# Altium footprint library Fuse.PcbLib: 123 footprints (part 3 of 8)
Each footprint in its own frame and in the unit in brackets; x right, y up, seen from the top. Pads: shape width x height; smd on the part's side, far side on the other; paste and mask are expansions set on the pad; w line width, h text height; cw(c..) or ccw(c..) is an arc to the next point about the centre after c.
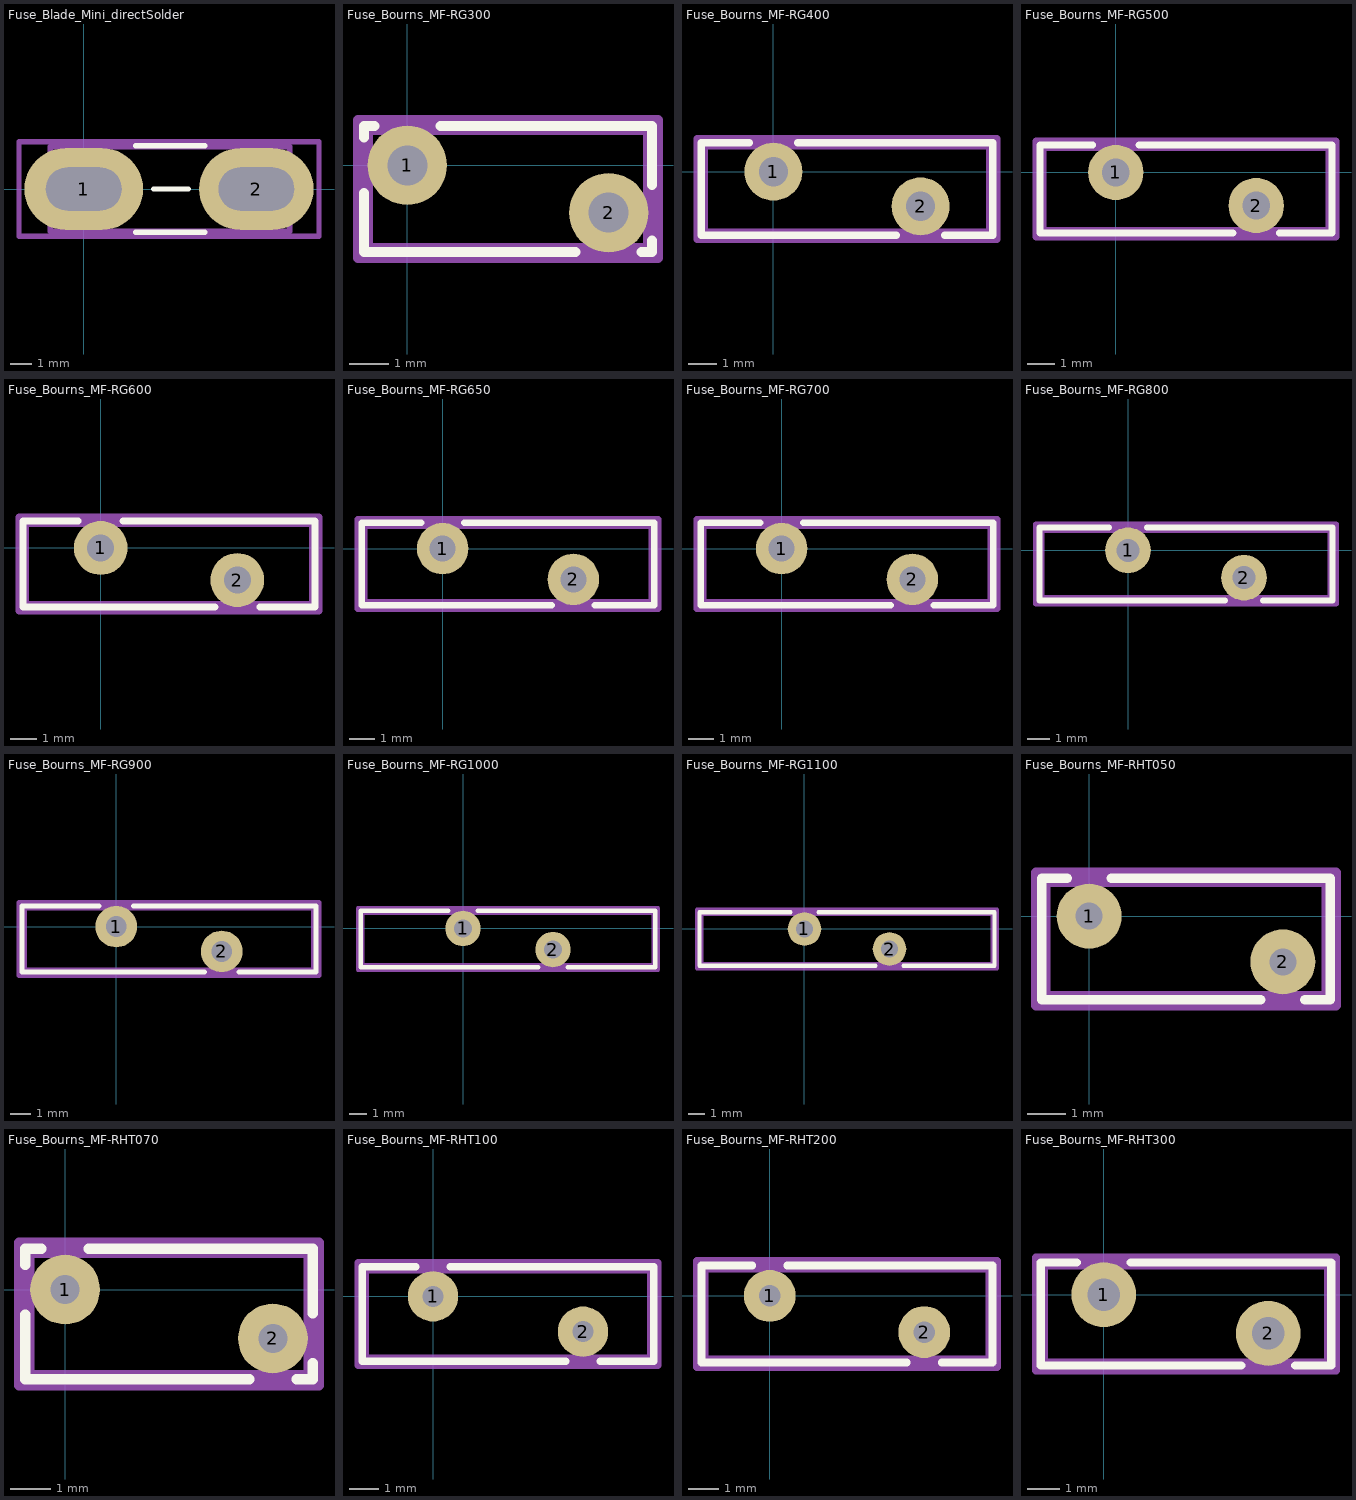
[diagram p2: the footprints below, top view; thin cyan lines are the x and y axes]

## Fuse_Blade_Mini_directSolder [mm]
pads (2):
  rrect100% 5.5x3.8 hole 2 slot 3.5 at 0 deg: 1(0,0)
  rrect100% 5.3x3.8 hole 2 slot 3.5 at 0 deg: 2(8,0)
F.SilkS:
  lines w0.254: 2.4,-2 5.6,-2 ; 2.4,2 5.6,2 ; 3.25,0 4.85,0
Top Assembly:
  lines w0.254: -1.55,-1.95 9.55,-1.95 9.55,1.95 -1.55,1.95 -1.55,-1.95
  text "'.Designator'" at 0.203,0.16 h1
Top Courtyard:
  lines w0.254: -3,-2.2 10.9,-2.2 10.9,2.2 -3,2.2 -3,-2.2
Top Designator:
  text ".Designator" at -3.668,-0.508 h1.52

## Fuse_Bourns_MF-RG300 [mm]
pads (2):
  round 2.01 hole 1.01: 1(0,0) 2(5.1,-1.2)
F.SilkS:
  lines w0.254: -1.1,-0.702 -1.1,-2.2 4.262,-2.2 ; -1.1,0.702 -1.1,1 -0.838,1 ; 0.838,1 6.2,1 6.2,-0.498 ; 5.938,-2.2 6.2,-2.2 6.2,-1.902
Top Assembly:
  lines w0.254: -1,-2.1 6.1,-2.1 6.1,0.9 -1,0.9 -1,-2.1
  text "'.Designator'" at -1.497,-1.44 h1
Top Courtyard:
  lines w0.254: -1.25,-2.35 6.35,-2.35 6.35,1.15 -1.25,1.15 -1.25,-2.35
Top Designator:
  text ".Designator" at -5.202,-1.108 h1.52

## Fuse_Bourns_MF-RG400 [mm]
pads (2):
  round 2.01 hole 1.01: 1(0,0) 2(5.1,-1.2)
F.SilkS:
  lines w0.254: -0.838,1 -2.5,1 -2.5,-2.2 4.262,-2.2 ; 0.838,1 7.6,1 7.6,-2.2 5.938,-2.2
Top Assembly:
  lines w0.254: -2.4,-2.1 7.5,-2.1 7.5,0.9 -2.4,0.9 -2.4,-2.1
  text "'.Designator'" at -1.497,-1.44 h1
Top Courtyard:
  lines w0.254: -2.65,-2.35 7.75,-2.35 7.75,1.15 -2.65,1.15 -2.65,-2.35
Top Designator:
  text ".Designator" at -5.068,-1.108 h1.52

## Fuse_Bourns_MF-RG500 [mm]
pads (2):
  round 2.01 hole 1.01: 1(0,0) 2(5.1,-1.2)
F.SilkS:
  lines w0.254: -0.838,1 -2.75,1 -2.75,-2.2 4.262,-2.2 ; 0.838,1 7.85,1 7.85,-2.2 5.938,-2.2
Top Assembly:
  lines w0.254: -2.65,-2.1 7.75,-2.1 7.75,0.9 -2.65,0.9 -2.65,-2.1
  text "'.Designator'" at -1.497,-1.44 h1
Top Courtyard:
  lines w0.254: -2.9,-2.35 8,-2.35 8,1.15 -2.9,1.15 -2.9,-2.35
Top Designator:
  text ".Designator" at -5.068,-1.108 h1.52

## Fuse_Bourns_MF-RG600 [mm]
pads (2):
  round 2.01 hole 1.01: 1(0,0) 2(5.1,-1.2)
F.SilkS:
  lines w0.254: -0.838,1 -2.9,1 -2.9,-2.2 4.262,-2.2 ; 0.838,1 8,1 8,-2.2 5.938,-2.2
Top Assembly:
  lines w0.254: -2.8,-2.1 7.9,-2.1 7.9,0.9 -2.8,0.9 -2.8,-2.1
  text "'.Designator'" at -1.497,-1.44 h1
Top Courtyard:
  lines w0.254: -3.05,-2.35 8.15,-2.35 8.15,1.15 -3.05,1.15 -3.05,-2.35
Top Designator:
  text ".Designator" at -5.068,-1.108 h1.52

## Fuse_Bourns_MF-RG650 [mm]
pads (2):
  round 2.01 hole 1.01: 1(0,0) 2(5.1,-1.2)
F.SilkS:
  lines w0.254: -0.838,1 -3.15,1 -3.15,-2.2 4.262,-2.2 ; 0.838,1 8.25,1 8.25,-2.2 5.938,-2.2
Top Assembly:
  lines w0.254: -3.05,-2.1 8.15,-2.1 8.15,0.9 -3.05,0.9 -3.05,-2.1
  text "'.Designator'" at -1.497,-1.44 h1
Top Courtyard:
  lines w0.254: -3.3,-2.35 8.4,-2.35 8.4,1.15 -3.3,1.15 -3.3,-2.35
Top Designator:
  text ".Designator" at -5.068,-1.108 h1.52

## Fuse_Bourns_MF-RG700 [mm]
pads (2):
  round 2.01 hole 1.01: 1(0,0) 2(5.1,-1.2)
F.SilkS:
  lines w0.254: -0.838,1 -3.15,1 -3.15,-2.2 4.262,-2.2 ; 0.838,1 8.25,1 8.25,-2.2 5.938,-2.2
Top Assembly:
  lines w0.254: -3.05,-2.1 8.15,-2.1 8.15,0.9 -3.05,0.9 -3.05,-2.1
  text "'.Designator'" at -1.497,-1.44 h1
Top Courtyard:
  lines w0.254: -3.3,-2.35 8.4,-2.35 8.4,1.15 -3.3,1.15 -3.3,-2.35
Top Designator:
  text ".Designator" at -5.068,-1.108 h1.52

## Fuse_Bourns_MF-RG800 [mm]
pads (2):
  round 2.01 hole 1.01: 1(0,0) 2(5.1,-1.2)
F.SilkS:
  lines w0.254: -0.838,1 -3.9,1 -3.9,-2.2 4.262,-2.2 ; 0.838,1 9,1 9,-2.2 5.938,-2.2
Top Assembly:
  lines w0.254: -3.8,-2.1 8.9,-2.1 8.9,0.9 -3.8,0.9 -3.8,-2.1
  text "'.Designator'" at -1.497,-1.44 h1
Top Courtyard:
  lines w0.254: -4.05,-2.35 9.15,-2.35 9.15,1.15 -4.05,1.15 -4.05,-2.35
Top Designator:
  text ".Designator" at -5.068,-1.108 h1.52

## Fuse_Bourns_MF-RG900 [mm]
pads (2):
  round 2.01 hole 1.01: 1(0,0) 2(5.1,-1.2)
F.SilkS:
  lines w0.254: -0.838,1 -4.55,1 -4.55,-2.2 4.262,-2.2 ; 0.838,1 9.65,1 9.65,-2.2 5.938,-2.2
Top Assembly:
  lines w0.254: -4.45,-2.1 9.55,-2.1 9.55,0.9 -4.45,0.9 -4.45,-2.1
  text "'.Designator'" at -1.497,-1.44 h1
Top Courtyard:
  lines w0.254: -4.7,-2.35 9.8,-2.35 9.8,1.15 -4.7,1.15 -4.7,-2.35
Top Designator:
  text ".Designator" at -5.068,-1.108 h1.52

## Fuse_Bourns_MF-RG1000 [mm]
pads (2):
  round 2.01 hole 1.01: 1(0,0) 2(5.1,-1.2)
F.SilkS:
  lines w0.254: -0.838,1 -5.8,1 -5.8,-2.2 4.262,-2.2 ; 0.838,1 10.9,1 10.9,-2.2 5.938,-2.2
Top Assembly:
  lines w0.254: -5.7,-2.1 10.8,-2.1 10.8,0.9 -5.7,0.9 -5.7,-2.1
  text "'.Designator'" at -1.497,-1.44 h1
Top Courtyard:
  lines w0.254: -5.95,-2.35 11.05,-2.35 11.05,1.15 -5.95,1.15 -5.95,-2.35
Top Designator:
  text ".Designator" at -5.068,-1.108 h1.52

## Fuse_Bourns_MF-RG1100 [mm]
pads (2):
  round 2.01 hole 1.01: 1(0,0) 2(5.1,-1.2)
F.SilkS:
  lines w0.254: -0.838,1 -6.3,1 -6.3,-2.2 4.262,-2.2 ; 0.838,1 11.4,1 11.4,-2.2 5.938,-2.2
Top Assembly:
  lines w0.254: -6.2,-2.1 11.3,-2.1 11.3,0.9 -6.2,0.9 -6.2,-2.1
  text "'.Designator'" at -1.497,-1.44 h1
Top Courtyard:
  lines w0.254: -6.45,-2.35 11.55,-2.35 11.55,1.15 -6.45,1.15 -6.45,-2.35
Top Designator:
  text ".Designator" at -5.068,-1.108 h1.52

## Fuse_Bourns_MF-RHT050 [mm]
pads (2):
  round 1.71 hole 0.71: 1(0,0) 2(5.1,-1.2)
F.SilkS:
  lines w0.254: -0.578,1 -1.25,1 -1.25,-2.2 4.522,-2.2 ; 0.578,1 6.35,1 6.35,-2.2 5.678,-2.2
Top Assembly:
  lines w0.254: -1.15,-2.1 6.25,-2.1 6.25,0.9 -1.15,0.9 -1.15,-2.1
  text "'.Designator'" at -1.497,-1.44 h1
Top Courtyard:
  lines w0.254: -1.4,-2.35 6.5,-2.35 6.5,1.15 -1.4,1.15 -1.4,-2.35
Top Designator:
  text ".Designator" at -5.127,-1.108 h1.52

## Fuse_Bourns_MF-RHT070 [mm]
pads (2):
  round 1.71 hole 0.71: 1(0,0) 2(5.1,-1.2)
F.SilkS:
  lines w0.254: -0.98,-0.611 -0.98,-2.2 4.522,-2.2 ; -0.98,0.611 -0.98,1 -0.578,1 ; 0.578,1 6.08,1 6.08,-0.589 ; 5.678,-2.2 6.08,-2.2 6.08,-1.811
Top Assembly:
  lines w0.254: -0.88,-2.1 5.98,-2.1 5.98,0.9 -0.88,0.9 -0.88,-2.1
  text "'.Designator'" at -1.497,-1.44 h1
Top Courtyard:
  lines w0.254: -1.13,-2.35 6.23,-2.35 6.23,1.15 -1.13,1.15 -1.13,-2.35
Top Designator:
  text ".Designator" at -5.218,-1.108 h1.52

## Fuse_Bourns_MF-RHT100 [mm]
pads (2):
  round 1.71 hole 0.71: 1(0,0) 2(5.1,-1.2)
F.SilkS:
  lines w0.254: -0.578,1 -2.4,1 -2.4,-2.2 4.522,-2.2 ; 0.578,1 7.5,1 7.5,-2.2 5.678,-2.2
Top Assembly:
  lines w0.254: -2.3,-2.1 7.4,-2.1 7.4,0.9 -2.3,0.9 -2.3,-2.1
  text "'.Designator'" at -1.497,-1.44 h1
Top Courtyard:
  lines w0.254: -2.55,-2.35 7.65,-2.35 7.65,1.15 -2.55,1.15 -2.55,-2.35
Top Designator:
  text ".Designator" at -5.068,-1.108 h1.52

## Fuse_Bourns_MF-RHT200 [mm]
pads (2):
  round 1.71 hole 0.71: 1(0,0) 2(5.1,-1.2)
F.SilkS:
  lines w0.254: -0.578,1 -2.25,1 -2.25,-2.2 4.522,-2.2 ; 0.578,1 7.35,1 7.35,-2.2 5.678,-2.2
Top Assembly:
  lines w0.254: -2.15,-2.1 7.25,-2.1 7.25,0.9 -2.15,0.9 -2.15,-2.1
  text "'.Designator'" at -1.497,-1.44 h1
Top Courtyard:
  lines w0.254: -2.4,-2.35 7.5,-2.35 7.5,1.15 -2.4,1.15 -2.4,-2.35
Top Designator:
  text ".Designator" at -5.068,-1.108 h1.52

## Fuse_Bourns_MF-RHT300 [mm]
pads (2):
  round 2.01 hole 1.01: 1(0,0) 2(5.1,-1.2)
F.SilkS:
  lines w0.254: -0.838,1 -1.95,1 -1.95,-2.2 4.262,-2.2 ; 0.838,1 7.05,1 7.05,-2.2 5.938,-2.2
Top Assembly:
  lines w0.254: -1.85,-2.1 6.95,-2.1 6.95,0.9 -1.85,0.9 -1.85,-2.1
  text "'.Designator'" at -1.497,-1.44 h1
Top Courtyard:
  lines w0.254: -2.1,-2.35 7.2,-2.35 7.2,1.15 -2.1,1.15 -2.1,-2.35
Top Designator:
  text ".Designator" at -5.068,-1.108 h1.52